# Altium schematic symbol library RMCF1206JG100K.SchLib: 1 symbol
Pins are listed as number, name and electrical type; pins without a type are passive.

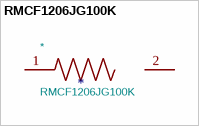
[diagram p0: symbol RMCF1206JG100K]

## RMCF1206JG100K
designator *  value RMCF1206JG100K
\n                        \n                            100 kOhms ±5% 0.25W, 1/4W Chip Resistor 1206 (3216 Metric) Automotive AEC-Q200 Thick Film\n                        \n; MF: Stackpole Electronics Inc; Footprint: RMCF1206JG100K:RESC3216X70N; Description_: \n                        \n                            100 kOhms ±5% 0.25W, 1/4W Chip Resistor 1206 (3216 Metric) Automotive AEC-Q200 Thick Film\n                        \n; Package: 3216 Stackpole; Price: None; SnapEDA_Link: https://www.snapeda.com/parts/RMCF1206JG100K/Stackpole+Electronics/view-part/?ref=snap; MP: RMCF1206JG100K; Availability: In Stock; Check_prices: https://www.snapeda.com/parts/RMCF1206JG100K/Stackpole+Electronics/view-part/?ref=eda
footprint RESC3216X70N
pins: 1, 2